# Altium integrated library AHTS-PKG.IntLib: 8 symbols
Pins are listed as number, name and electrical type; pins without a type are passive.

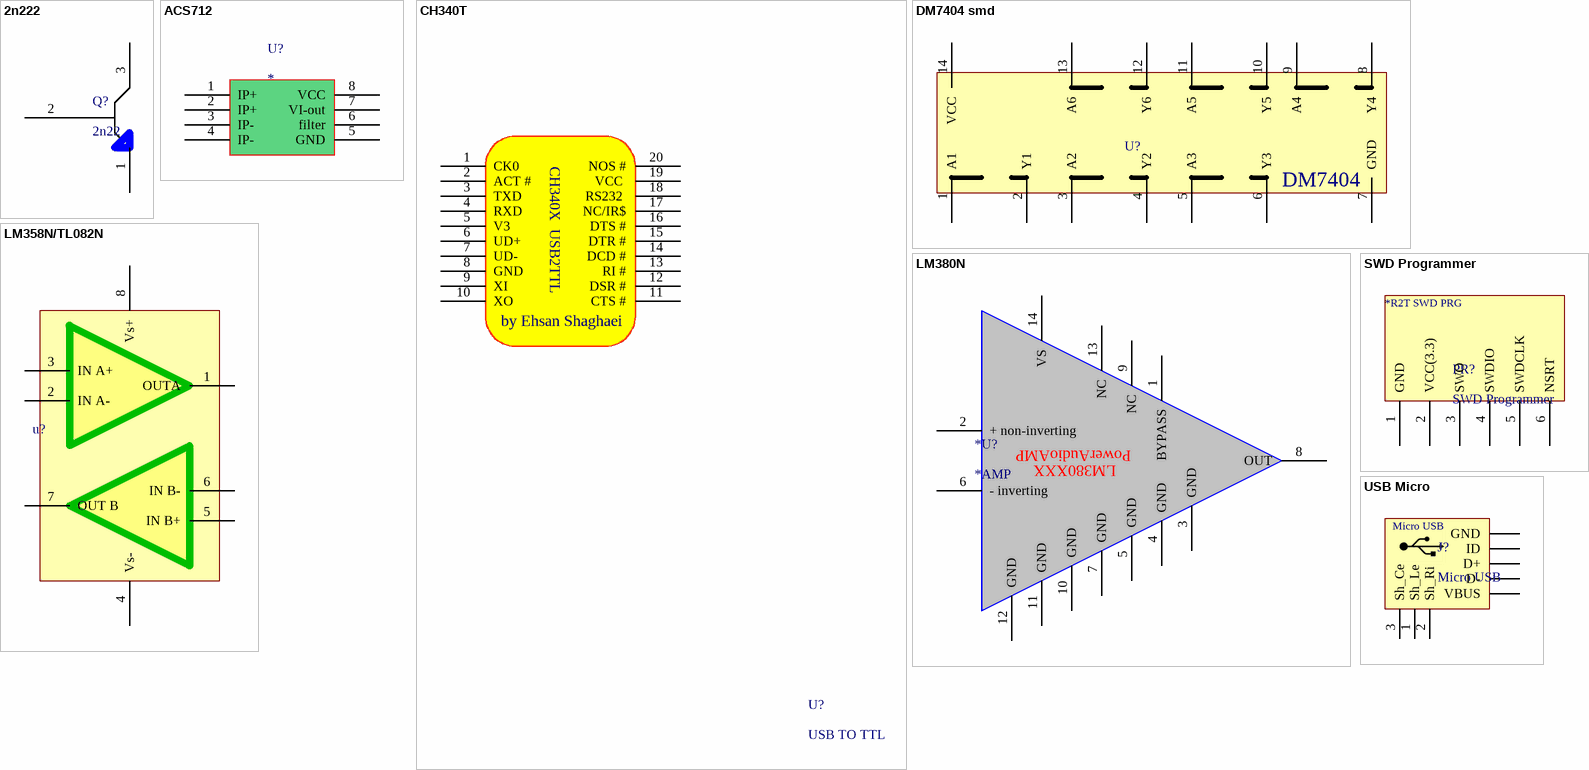
[diagram p0: symbols 2n222 to USB Micro]

## 2n222
designator Q?, comment 2n22
Designer: Ehsan Shaghaei
footprint 2n2222
pins: 1 Emitter, 2 base, 3 Collector

## ACS712
designator U?
Designer: Ehsan Shaghaei
footprint ACS712
pins: 1 IP+, 2 IP+, 3 IP-, 4 IP-, 5 GND, 6 filter, 7 VI-out, 8 VCC

## CH340T
designator U?, comment USB TO TTL
Designer: Ehsan Shaghaei; Web site: www.dregg.com
footprint CH340T
pins: 1 CK0, 2 ACT #, 3 TXD, 4 RXD, 5 V3, 6 UD+, 7 UD-, 8 GND, 9 XI, 10 XO, 11 CTS #, 12 DSR #, 13 RI #, 14 DCD #, 15 DTR #, 16 DTS #, 17 NC/IR$, 18 RS232 , 19 VCC , 20 NOS #
text: CH340X  USB2TTL; by Ehsan Shaghaei

## DM7404 smd
designator U?  (value not drawn)
Designer: Ehsan Shaghaei; 7404: Not Gate
footprint DM7404n
pins: 1 A1, 2 Y1, 3 A2, 4 Y2, 5 A3, 6 Y3, 7 GND, 8 Y4, 9 A4, 10 Y5, 11 A5, 12 Y6, 13 A6, 14 VCC
text: DM7404

## LM358N/TL082N
designator u?  (value not drawn)
DESIGNER: Ehsan Shaghaei
footprint lm358 dip
footprint lm358 smd
pins: 1 OUTA, 2 IN A-, 3 IN A+, 4 Vs-, 5 IN B+, 6 IN B-, 7 OUT B, 8 Vs+

## LM380N
designator *U?, comment *AMP
Desinator: Ehsan Shaghaei; Email: Ehsan2754@yahoo.com
footprint LM380N-DIP
pins: 1 BYPASS, 2 + non-inverting, 3 GND, 4 GND, 5 GND, 6 - inverting, 7 GND, 8 OUT, 9 NC, 10 GND, 11 GND, 12 GND, 13 NC, 14 VS
text: PowerAudioAMP; LM380XXX

## SWD Programmer
designator PR?
Designer: Ehsan Shaghaei
footprint SWD PRG
pins: 1 GND, 2 VCC(3.3), 3 SWO, 4 SWDIO, 5 SWDCLK, 6 NSRT
text: *R2T SWD PRG

## USB Micro
designator J?, comment Micro USB
ENG: Ehsan Shaghaei
footprint MicroUSB
pins: 1 Sh_Le, 1-VBUS VBUS (power), 2 Sh_Ri, 2-D- D- (power), 3 Sh_Ce, 3-D+ D+, 4-ID ID, 5-GND GND (power)